# EAGLE library part MCP2561 (library Goodies)
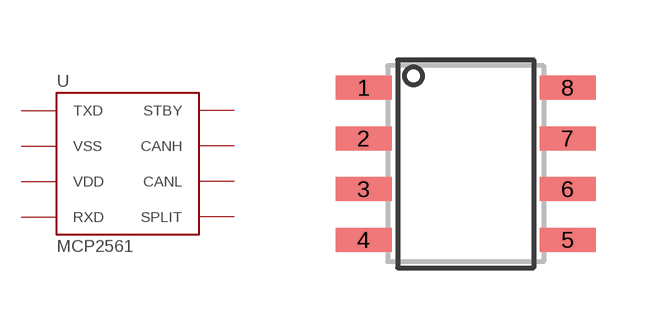
[diagram p5: symbol with the pads of SOIC8; footprint SOIC8]

Designator prefix U

## MCP2561  [SOIC8]
1  TXD
2  VSS
3  VDD
4  RXD
5  SPLIT
6  CANL
7  CANH
8  STBY

## Footprint SOIC8 (pad centres in mm)
smd 1.4 x 0.6: 1 -2.55,1.905; 2 -2.55,0.635; 3 -2.55,-0.635; 4 -2.55,-1.905; 5 2.55,-1.905; 6 2.55,-0.635; 7 2.55,0.635; 8 2.55,1.905